# Altium footprint library Dallas Semiconductor Footprints.PcbLib: 181 footprints (part 12 of 12)
Each footprint in its own frame and in the unit in brackets; x right, y up, seen from the top. Pads: shape width x height; smd on the part's side, far side on the other; paste and mask are expansions set on the pad; w line width, h text height; cw(c..) or ccw(c..) is an arc to the next point about the centre after c.
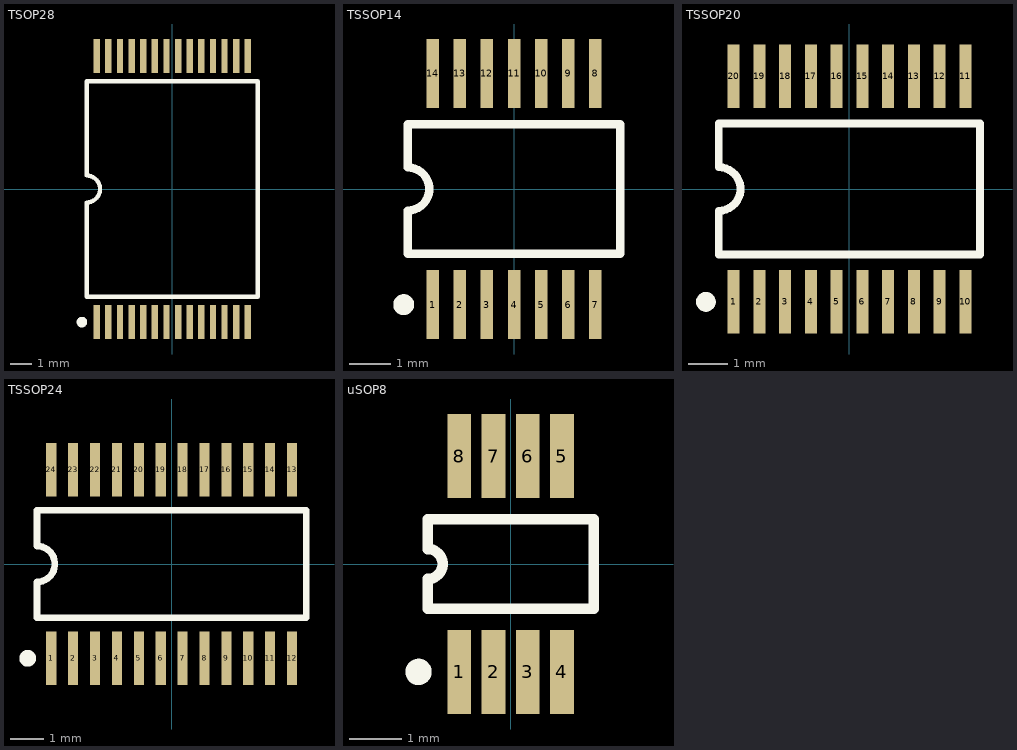
[diagram p11: the footprints below, top view; thin cyan lines are the x and y axes]

## TSOP28 [mm] "Shrink Small Outline; 28 Leads; Body Width 11.8 mm; Pitch 0.55 mm"
height 1.1
pads (28):
  rect 0.3x1.6 smd: 1(-3.575,-6.3) 2(-3.025,-6.3) 3(-2.475,-6.3) 4(-1.925,-6.3) 5(-1.375,-6.3) 6(-0.825,-6.3) 7(-0.275,-6.3) 8(0.275,-6.3) 9(0.825,-6.3) 10(1.375,-6.3) 11(1.925,-6.3) 12(2.475,-6.3) 13(3.025,-6.3) 14(3.575,-6.3) 15(3.575,6.3) 16(3.025,6.3) 17(2.475,6.3) 18(1.925,6.3) 19(1.375,6.3) 20(0.825,6.3) 21(0.275,6.3) 22(-0.275,6.3) 23(-0.825,6.3) 24(-1.375,6.3) 25(-1.925,6.3) 26(-2.475,6.3) 27(-3.025,6.3) 28(-3.575,6.3)
Top Overlay:
  circle w0.25: c-4.275,-6.3 r0.125
  lines w0.2: -4.05,-5.1 -4.05,-0.635 ccw(c-4.05,0) -4.05,0.635 -4.05,5.1 4.05,5.1 4.05,-5.1 -4.05,-5.1

## TSSOP14 [mm] "Shrink Small Outline; 14 Leads; Body Width 4.4 mm; Pitch 0.65 mm"
height 1.1
pads (14):
  rect 0.3x1.65 smd: 1(-1.95,-2.775) 2(-1.3,-2.775) 3(-0.65,-2.775) 4(0,-2.775) 5(0.65,-2.775) 6(1.3,-2.775) 7(1.95,-2.775) 8(1.95,2.775) 9(1.3,2.775) 10(0.65,2.775) 11(0,2.775) 12(-0.65,2.775) 13(-1.3,2.775) 14(-1.95,2.775)
Top Overlay:
  circle w0.25: c-2.65,-2.775 r0.125
  lines w0.2: -2.55,-1.55 2.55,-1.55 2.55,1.55 -2.55,1.55 -2.55,0.517 cw(c-2.55,0) -2.55,-0.517 -2.55,-1.55

## TSSOP20 [mm] "Shrink Small Outline; 20 Leads; Body Width 4.4 mm; Pitch 0.65 mm"
height 1.1
pads (20):
  rect 0.3x1.6 smd: 1(-2.925,-2.85) 2(-2.275,-2.85) 3(-1.625,-2.85) 4(-0.975,-2.85) 5(-0.325,-2.85) 6(0.325,-2.85) 7(0.975,-2.85) 8(1.625,-2.85) 9(2.275,-2.85) 10(2.925,-2.85) 11(2.925,2.85) 12(2.275,2.85) 13(1.625,2.85) 14(0.975,2.85) 15(0.325,2.85) 16(-0.325,2.85) 17(-0.975,2.85) 18(-1.625,2.85) 19(-2.275,2.85) 20(-2.925,2.85)
Top Overlay:
  circle w0.25: c-3.625,-2.85 r0.125
  lines w0.2: -3.3,-1.65 -3.3,-0.55 ccw(c-3.3,0) -3.3,0.55 -3.3,1.65 3.3,1.65 3.3,-1.65 -3.3,-1.65

## TSSOP24 [mm] "Shrink Small Outline; 24 Leads; Body Width 4.4 mm; Pitch 0.65 mm"
height 1.1
pads (24):
  rect 0.3x1.6 smd: 1(-3.575,-2.8) 2(-2.925,-2.8) 3(-2.275,-2.8) 4(-1.625,-2.8) 5(-0.975,-2.8) 6(-0.325,-2.8) 7(0.325,-2.8) 8(0.975,-2.8) 9(1.625,-2.8) 10(2.275,-2.8) 11(2.925,-2.8) 12(3.575,-2.8) 13(3.575,2.8) 14(2.925,2.8) 15(2.275,2.8) 16(1.625,2.8) 17(0.975,2.8) 18(0.325,2.8) 19(-0.325,2.8) 20(-0.975,2.8) 21(-1.625,2.8) 22(-2.275,2.8) 23(-2.925,2.8) 24(-3.575,2.8)
Top Overlay:
  circle w0.25: c-4.275,-2.8 r0.125
  lines w0.2: -4,-1.6 -4,-0.533 ccw(c-4,0) -4,0.533 -4,1.6 4,1.6 4,-1.6 -4,-1.6

## uSOP8 [mm] "Shrink Small Outline; 8 Leads; Body Width 3 mm; Pitch 0.65 mm"
height 1.1
pads (8):
  rect 0.45x1.6 smd: 1(-0.975,-2.05) 2(-0.325,-2.05) 3(0.325,-2.05) 4(0.975,-2.05) 5(0.975,2.05) 6(0.325,2.05) 7(-0.325,2.05) 8(-0.975,2.05)
Top Overlay:
  circle w0.25: c-1.75,-2.05 r0.125
  lines w0.2: -1.575,-0.85 1.575,-0.85 1.575,0.85 -1.575,0.85 -1.575,0.283 cw(c-1.575,0) -1.575,-0.283 -1.575,-0.85